# Altium schematic symbol library SCH - DRIVER - LED - TI TPS92612-Q1DBV.SchLib: 1 symbol
Pins are listed as number, name and electrical type; pins without a type are passive.

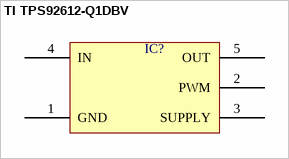
[diagram p0: symbol TI TPS92612-Q1DBV]

## TI TPS92612-Q1DBV
designator IC?  (value not drawn)
pins: 1 GND, 2 PWM, 3 SUPPLY, 4 IN, 5 OUT